# EAGLE library part BOARD4YOU_NUD3105DMT1G (library CrazyRemote)
Inductive Load Driver
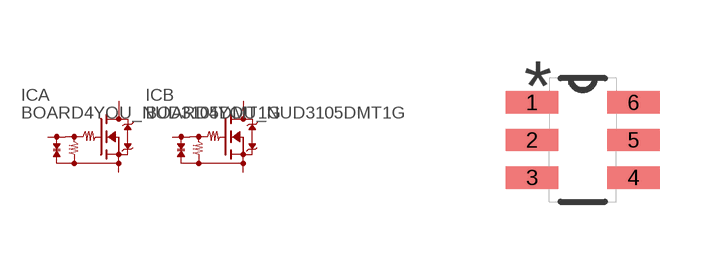
[diagram p2: symbol with the pads of BOARD4YOU_SOT95P275X110-6N; footprint BOARD4YOU_SOT95P275X110-6N]

Designator prefix IC; gates A=BOARD4YOU_NUD3105DMT1G B=BOARD4YOU_NUD3105DMT1G

## BOARD4YOU_NUD3105DMT1G (MPN: NUD3105DMT1G; OC_FARNELL: 1880145; OC_NEWARK: 42K2469; PACKAGE: SC-74-6; SUPPLIER: ON Semiconductor)  [BOARD4YOU_SOT95P275X110-6N]
1  A:SOURCE  in
2  A:GATE  in
3  B:DRAIN  out
4  B:SOURCE  in
5  B:GATE  in
6  A:DRAIN  out

## Footprint BOARD4YOU_SOT95P275X110-6N (pad centres in mm)
smd 1.321 x 0.559: 1 -1.27,0.94; 2 -1.27,0; 3 -1.27,-0.94; 4 1.27,-0.94; 5 1.27,0; 6 1.27,0.94